# Altium integrated library TI Data Converters Digital to Analog Converter.IntLib: 1533 symbols (part 96 of 99)
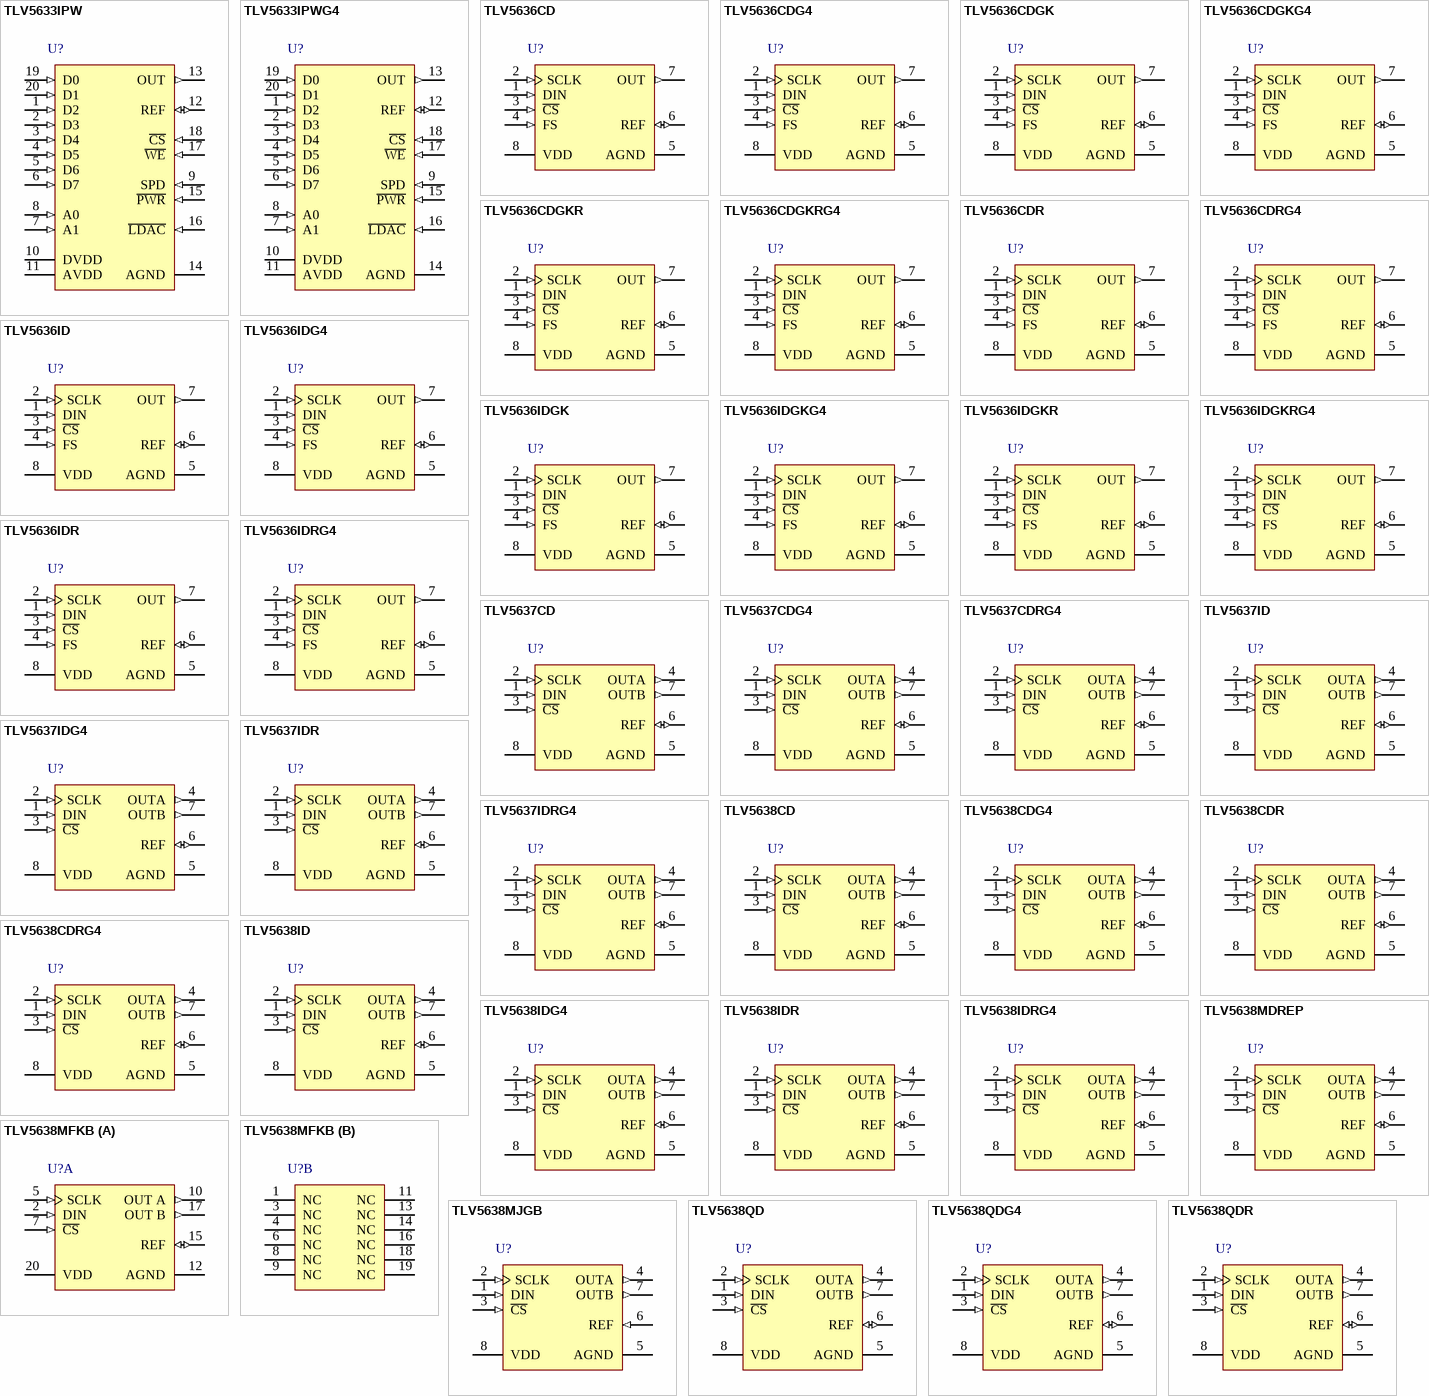
[diagram p168: symbols TLV5633IPW to TLV5638QDR]

## TLV5638CDRG4
designator U?
12-Bit, 1 or 3.5 us DAC Serial Input, Dual DAC, Programmable Internal Reference, Settling Time, Power Consumption, 0 to 70 degC, 8-pin SOIC (D8), Green (RoHS & no Sb/Br); Manufacturer: Texas Instruments; PartNumber: TLV5638CDRG4; DAC Channels: 2; DNL(Max)(+/-LSB): 1; INL(Max)(+/-LSB): 4; Interface: Serial SPI; Power Consumption(Typ)(mW): 4.5; Resolution(Bits): 12; SFDR(dB): 72; SNR(dB): 74; SubFamily: Precision DAC (=<10MSPS); DatasheetVersion: SLAS225C; PackageVersion: 4040047-3/M, 06/2011; PackageReference: D8; PackageDescription: 8-Pin Plastic Small Outline, Body 4.9 x 3.9 mm, Pitch 1.27 mm; Supplier 1: Digi-Key; Supplier Part Number 1: TLV5638CDRG4-ND; Supplier 2: Mouser; Supplier Part Number 2: 595-TLV5638CDRG4; Eco-Plan: Green (RoHS & no Sb/Br); Settling Time(us): 1; Mounting Technology: Surface Mount; Code_JEDEC: MS-012; ComponentLink1Description: Manufacturer URL; ComponentLink1URL: http://www.ti.com/; ComponentLink2Description: Datasheet; ComponentLink2URL: http://www.ti.com/general/docs/lit/getliterature.tsp?genericPartNumber=TLV5638&fileType=pdf; ComponentLink3Description: Package Specification; ComponentLink3URL: http://www.ti.com/litv/pdf/msoi002j
footprint TI-D8_N (SOIC, 8-Leads, Body 4.9x3.9mm, Pitch 1.27mm, IPC Medium Density)
footprint TI-D8_L (SOIC, 8-Leads, Body 4.9x3.9mm, Pitch 1.27mm, IPC High Density)
footprint TI-D8_M (SOIC, 8-Leads, Body 4.9x3.9mm, Pitch 1.27mm, IPC Low Density)
pins: 1 DIN (in) "Digital serial data input", 2 SCLK (in) "Digital serial clock input", 3 ~{CS} (in) "Chip select. Digital input active low, used to enable/disable inputs", 4 OUTA (out) "DAC A analog voltage output", 5 AGND (power) "Ground", 6 REF (io) "Analog reference voltage input/output", 7 OUTB (out) "DAC B analog voltage output", 8 VDD (power) "Positive power supply"

## TLV5638ID
designator U?
12-Bit, 1 or 3.5 us DAC Serial Input, Dual DAC, Programmable Internal Reference, Settling Time, Power Consumption, -40 to 85 degC, 8-pin SOIC (D8), Green (RoHS & no Sb/Br); Manufacturer: Texas Instruments; PartNumber: TLV5638ID; DAC Channels: 2; DNL(Max)(+/-LSB): 1; INL(Max)(+/-LSB): 4; Interface: Serial SPI; Power Consumption(Typ)(mW): 4.5; Resolution(Bits): 12; SFDR(dB): 72; SNR(dB): 74; SubFamily: Precision DAC (=<10MSPS); DatasheetVersion: SLAS225C; PackageVersion: 4040047-3/M, 06/2011; PackageReference: D8; PackageDescription: 8-Pin Plastic Small Outline, Body 4.9 x 3.9 mm, Pitch 1.27 mm; Supplier 1: Digi-Key; Supplier Part Number 1: 296-3076-5-ND; Supplier 2: Farnell; Supplier Part Number 2: 8455856; Supplier 3: Newark; Supplier Part Number 3: 76C8995; Supplier 4: Mouser; Supplier Part Number 4: 595-TLV5638ID; Eco-Plan: Green (RoHS & no Sb/Br); Settling Time(us): 1; Mounting Technology: Surface Mount; Code_JEDEC: MS-012; ComponentLink1Description: Manufacturer URL; ComponentLink1URL: http://www.ti.com/; ComponentLink2Description: Datasheet; ComponentLink2URL: http://www.ti.com/general/docs/lit/getliterature.tsp?genericPartNumber=TLV5638&fileType=pdf; ComponentLink3Description: Package Specification; ComponentLink3URL: http://www.ti.com/litv/pdf/msoi002j
footprint TI-D8_N (SOIC, 8-Leads, Body 4.9x3.9mm, Pitch 1.27mm, IPC Medium Density)
footprint TI-D8_L (SOIC, 8-Leads, Body 4.9x3.9mm, Pitch 1.27mm, IPC High Density)
footprint TI-D8_M (SOIC, 8-Leads, Body 4.9x3.9mm, Pitch 1.27mm, IPC Low Density)
pins: 1 DIN (in) "Digital serial data input", 2 SCLK (in) "Digital serial clock input", 3 ~{CS} (in) "Chip select. Digital input active low, used to enable/disable inputs", 4 OUTA (out) "DAC A analog voltage output", 5 AGND (power) "Ground", 6 REF (io) "Analog reference voltage input/output", 7 OUTB (out) "DAC B analog voltage output", 8 VDD (power) "Positive power supply"

## TLV5638IDG4
designator U?
12-Bit, 1 or 3.5 us DAC Serial Input, Dual DAC, Programmable Internal Reference, Settling Time, Power Consumption, -40 to 85 degC, 8-pin SOIC (D8), Green (RoHS & no Sb/Br); Manufacturer: Texas Instruments; PartNumber: TLV5638IDG4; DAC Channels: 2; DNL(Max)(+/-LSB): 1; INL(Max)(+/-LSB): 4; Interface: Serial SPI; Power Consumption(Typ)(mW): 4.5; Resolution(Bits): 12; SFDR(dB): 72; SNR(dB): 74; SubFamily: Precision DAC (=<10MSPS); DatasheetVersion: SLAS225C; PackageVersion: 4040047-3/M, 06/2011; PackageReference: D8; PackageDescription: 8-Pin Plastic Small Outline, Body 4.9 x 3.9 mm, Pitch 1.27 mm; Supplier 1: Digi-Key; Supplier Part Number 1: TLV5638IDG4-ND; Supplier 2: Mouser; Supplier Part Number 2: 595-TLV5638IDG4; Eco-Plan: Green (RoHS & no Sb/Br); Settling Time(us): 1; Mounting Technology: Surface Mount; Code_JEDEC: MS-012; ComponentLink1Description: Manufacturer URL; ComponentLink1URL: http://www.ti.com/; ComponentLink2Description: Datasheet; ComponentLink2URL: http://www.ti.com/general/docs/lit/getliterature.tsp?genericPartNumber=TLV5638&fileType=pdf; ComponentLink3Description: Package Specification; ComponentLink3URL: http://www.ti.com/litv/pdf/msoi002j
footprint TI-D8_N (SOIC, 8-Leads, Body 4.9x3.9mm, Pitch 1.27mm, IPC Medium Density)
footprint TI-D8_L (SOIC, 8-Leads, Body 4.9x3.9mm, Pitch 1.27mm, IPC High Density)
footprint TI-D8_M (SOIC, 8-Leads, Body 4.9x3.9mm, Pitch 1.27mm, IPC Low Density)
pins: 1 DIN (in) "Digital serial data input", 2 SCLK (in) "Digital serial clock input", 3 ~{CS} (in) "Chip select. Digital input active low, used to enable/disable inputs", 4 OUTA (out) "DAC A analog voltage output", 5 AGND (power) "Ground", 6 REF (io) "Analog reference voltage input/output", 7 OUTB (out) "DAC B analog voltage output", 8 VDD (power) "Positive power supply"

## TLV5638IDR
designator U?
12-Bit, 1 or 3.5 us DAC Serial Input, Dual DAC, Programmable Internal Reference, Settling Time, Power Consumption, -40 to 85 degC, 8-pin SOIC (D8), Green (RoHS & no Sb/Br); Manufacturer: Texas Instruments; PartNumber: TLV5638IDR; DAC Channels: 2; DNL(Max)(+/-LSB): 1; INL(Max)(+/-LSB): 4; Interface: Serial SPI; Power Consumption(Typ)(mW): 4.5; Resolution(Bits): 12; SFDR(dB): 72; SNR(dB): 74; SubFamily: Precision DAC (=<10MSPS); DatasheetVersion: SLAS225C; PackageVersion: 4040047-3/M, 06/2011; PackageReference: D8; PackageDescription: 8-Pin Plastic Small Outline, Body 4.9 x 3.9 mm, Pitch 1.27 mm; Supplier 1: Digi-Key; Supplier Part Number 1: TLV5638IDR-ND; Supplier 2: Mouser; Supplier Part Number 2: 595-TLV5638IDR; Eco-Plan: Green (RoHS & no Sb/Br); Settling Time(us): 1; Mounting Technology: Surface Mount; Code_JEDEC: MS-012; ComponentLink1Description: Manufacturer URL; ComponentLink1URL: http://www.ti.com/; ComponentLink2Description: Datasheet; ComponentLink2URL: http://www.ti.com/general/docs/lit/getliterature.tsp?genericPartNumber=TLV5638&fileType=pdf; ComponentLink3Description: Package Specification; ComponentLink3URL: http://www.ti.com/litv/pdf/msoi002j
footprint TI-D8_N (SOIC, 8-Leads, Body 4.9x3.9mm, Pitch 1.27mm, IPC Medium Density)
footprint TI-D8_L (SOIC, 8-Leads, Body 4.9x3.9mm, Pitch 1.27mm, IPC High Density)
footprint TI-D8_M (SOIC, 8-Leads, Body 4.9x3.9mm, Pitch 1.27mm, IPC Low Density)
pins: 1 DIN (in) "Digital serial data input", 2 SCLK (in) "Digital serial clock input", 3 ~{CS} (in) "Chip select. Digital input active low, used to enable/disable inputs", 4 OUTA (out) "DAC A analog voltage output", 5 AGND (power) "Ground", 6 REF (io) "Analog reference voltage input/output", 7 OUTB (out) "DAC B analog voltage output", 8 VDD (power) "Positive power supply"

## TLV5638IDRG4
designator U?
12-Bit, 1 or 3.5 us DAC Serial Input, Dual DAC, Programmable Internal Reference, Settling Time, Power Consumption, -40 to 85 degC, 8-pin SOIC (D8), Green (RoHS & no Sb/Br); Manufacturer: Texas Instruments; PartNumber: TLV5638IDRG4; DAC Channels: 2; DNL(Max)(+/-LSB): 1; INL(Max)(+/-LSB): 4; Interface: Serial SPI; Power Consumption(Typ)(mW): 4.5; Resolution(Bits): 12; SFDR(dB): 72; SNR(dB): 74; SubFamily: Precision DAC (=<10MSPS); DatasheetVersion: SLAS225C; PackageVersion: 4040047-3/M, 06/2011; PackageReference: D8; PackageDescription: 8-Pin Plastic Small Outline, Body 4.9 x 3.9 mm, Pitch 1.27 mm; Supplier 1: Digi-Key; Supplier Part Number 1: TLV5638IDRG4-ND; Supplier 2: Mouser; Supplier Part Number 2: 595-TLV5638IDRG4; Eco-Plan: Green (RoHS & no Sb/Br); Settling Time(us): 1; Mounting Technology: Surface Mount; Code_JEDEC: MS-012; ComponentLink1Description: Manufacturer URL; ComponentLink1URL: http://www.ti.com/; ComponentLink2Description: Datasheet; ComponentLink2URL: http://www.ti.com/general/docs/lit/getliterature.tsp?genericPartNumber=TLV5638&fileType=pdf; ComponentLink3Description: Package Specification; ComponentLink3URL: http://www.ti.com/litv/pdf/msoi002j
footprint TI-D8_N (SOIC, 8-Leads, Body 4.9x3.9mm, Pitch 1.27mm, IPC Medium Density)
footprint TI-D8_L (SOIC, 8-Leads, Body 4.9x3.9mm, Pitch 1.27mm, IPC High Density)
footprint TI-D8_M (SOIC, 8-Leads, Body 4.9x3.9mm, Pitch 1.27mm, IPC Low Density)
pins: 1 DIN (in) "Digital serial data input", 2 SCLK (in) "Digital serial clock input", 3 ~{CS} (in) "Chip select. Digital input active low, used to enable/disable inputs", 4 OUTA (out) "DAC A analog voltage output", 5 AGND (power) "Ground", 6 REF (io) "Analog reference voltage input/output", 7 OUTB (out) "DAC B analog voltage output", 8 VDD (power) "Positive power supply"

## TLV5638MDREP
designator U?
Enhanced Product 12-Bit, 1 us Serial Input Dual DAC, Programmable Internal Reference, Settling Time, -55 to 125 degC, 8-pin SOIC (D8), Green (RoHS & no Sb/Br); Manufacturer: Texas Instruments; PartNumber: TLV5638MDREP; DAC Channels: 2; DNL(Max)(+/-LSB): 1; INL(Max)(+/-LSB): 6; Interface: Serial SPI; Power Consumption(Typ)(mW): 4.5; Resolution(Bits): 12; SFDR(dB): 72; SNR(dB): 74; SubFamily: Precision DAC (=<10MSPS); DatasheetVersion: SGLS130B; PackageVersion: 4040047-3/M, 06/2011; PackageReference: D8; PackageDescription: 8-Pin Plastic Small Outline, Body 4.9 x 3.9 mm, Pitch 1.27 mm; Supplier 1: Digi-Key; Supplier Part Number 1: 296-18149-2-ND; Supplier 2: Digi-Key; Supplier Part Number 2: 296-18149-1-ND; Supplier 3: Digi-Key; Supplier Part Number 3: 296-18149-6-ND; Supplier 4: Newark; Supplier Part Number 4: 46M0968; Supplier 5: Mouser; Supplier Part Number 5: 595-TLV5638MDREP; Eco-Plan: Green (RoHS & no Sb/Br); Settling Time(us): 1; Mounting Technology: Surface Mount; Code_JEDEC: MS-012; ComponentLink1Description: Manufacturer URL; ComponentLink1URL: http://www.ti.com/; ComponentLink2Description: Datasheet; ComponentLink2URL: http://www.ti.com/general/docs/lit/getliterature.tsp?genericPartNumber=TLV5638-EP&fileType=pdf; ComponentLink3Description: Package Specification; ComponentLink3URL: http://www.ti.com/litv/pdf/msoi002j
footprint TI-D8_N (SOIC, 8-Leads, Body 4.9x3.9mm, Pitch 1.27mm, IPC Medium Density)
footprint TI-D8_L (SOIC, 8-Leads, Body 4.9x3.9mm, Pitch 1.27mm, IPC High Density)
footprint TI-D8_M (SOIC, 8-Leads, Body 4.9x3.9mm, Pitch 1.27mm, IPC Low Density)
pins: 1 DIN (in) "Digital serial data input", 2 SCLK (in) "Digital serial clock input", 3 ~{CS} (in) "Chip select. Digital input active low, used to enable/disable inputs", 4 OUTA (out) "DAC A analog voltage output", 5 AGND (power) "Ground", 6 REF (io) "Analog reference voltage input/output", 7 OUTB (out) "DAC B analog voltage output", 8 VDD (power) "Positive power supply"

## TLV5638MFKB
designator U?
12-Bit, 1 or 3.5 us DAC Serial Input, Dual DAC, Programmable Internal Reference, Settling Time, Power Consumption, -55 to 125 degC, 20-pin LCC (FK20); Manufacturer: Texas Instruments; PartNumber: TLV5638MFKB; DAC Channels: 2; DNL(Max)(+/-LSB): 1; INL(Max)(+/-LSB): 6; Interface: Serial SPI; Power Consumption(Typ)(mW): 4.5; Resolution(Bits): 12; SFDR(dB): 72; SNR(dB): 74; SubFamily: Precision DAC (=<10MSPS); DatasheetVersion: SLAS225C; PackageVersion: 4040140/D, 01/2011; PackageReference: FK20; PackageDescription: 20-Pin Ceramic, Metal Chip Carrier, Body 8.89 x 8.89 mm, Pitch 1.27 mm; Settling Time(us): 1; Mounting Technology: Surface Mount; Code_JEDEC: MS-004; ComponentLink1Description: Manufacturer URL; ComponentLink1URL: http://www.ti.com/; ComponentLink2Description: Datasheet; ComponentLink2URL: http://www.ti.com/general/docs/lit/getliterature.tsp?genericPartNumber=TLV5638M&fileType=pdf; ComponentLink3Description: Package Specification; ComponentLink3URL: http://www.ti.com/litv/pdf/mlcc006d
footprint TI-FK20_N (Leadless Chip Carrier, 20-Leads, Body 8.9x8.9mm, Pitch 1.27mm, IPC Medium Density)
footprint TI-FK20_L (Leadless Chip Carrier, 20-Leads, Body 8.9x8.9mm, Pitch 1.27mm, IPC High Density)
footprint TI-FK20_M (Leadless Chip Carrier, 20-Leads, Body 8.9x8.9mm, Pitch 1.27mm, IPC Low Density)
part A pins: 2 DIN (in) "Digital serial data input", 5 SCLK (in) "Digital serial clock input", 7 ~{CS} (in) "Chip select. Digital input active low, used to enable/disable inputs", 10 OUT A (out) "DAC A analog voltage output", 12 AGND (power) "Ground", 15 REF (io) "Analog reference voltage input/output", 17 OUT B (out) "DAC B analog voltage output", 20 VDD (power) "Positive power supply"
part B pins: 1 NC, 3 NC, 4 NC, 6 NC, 8 NC, 9 NC, 11 NC, 13 NC, 14 NC, 16 NC, 18 NC, 19 NC

## TLV5638MJGB
designator U?
12-Bit, 1 or 3.5 us DAC Serial Input, Dual DAC, Programmable Internal Reference, Settling Time, Power Consumption, -55 to 125 degC, 8-pin DIP (JG8); Manufacturer: Texas Instruments; PartNumber: TLV5638MJGB; DAC Channels: 2; DNL(Max)(+/-LSB): 1; INL(Max)(+/-LSB): 6; Interface: Serial SPI; Power Consumption(Typ)(mW): 4.5; Resolution(Bits): 12; SFDR(dB): 72; SNR(dB): 74; SubFamily: Precision DAC (=<10MSPS); DatasheetVersion: SLAS225C; PackageVersion: 4040107/C, 08/1996; PackageReference: JG8; PackageDescription: 8-Pin Ceramic, Glass In-Line, Body 9.58 x 6.665 mm, Pitch 2.54 mm; Supplier 1: Mouser; Supplier Part Number 1: 595-TLV5638MJGB; Settling Time(us): 1; Mounting Technology: Through Hole; ComponentLink1Description: Manufacturer URL; ComponentLink1URL: http://www.ti.com/; ComponentLink2Description: Datasheet; ComponentLink2URL: http://www.ti.com/general/docs/lit/getliterature.tsp?genericPartNumber=TLV5638M&fileType=pdf; ComponentLink3Description: Package Specification; ComponentLink3URL: http://www.ti.com/litv/pdf/mcer001a
footprint TI-JG8 (DIP, 8-Leads, Body 10.15x7.1mm, Pitch 2.54mm)
pins: 1 DIN (in) "Digital serial data input", 2 SCLK (in) "Digital serial clock input", 3 ~{CS} (in) "Chip select. Digital input active low, used to enable/disable inputs.", 4 OUTA (out) "DAC A analog voltage output", 5 AGND (power) "Ground", 6 REF (in) "Analog reference voltage input", 7 OUTB (out) "DAC B analog voltage output", 8 VDD (power) "Positive power supply"

## TLV5638QD
designator U?
12-Bit, 1 or 3.5 us DAC Serial Input, Dual DAC, Programmable Internal Reference, Settling Time, Power Consumption, -40 to 125 degC, 8-pin SOIC (D8), Green (RoHS & no Sb/Br); Manufacturer: Texas Instruments; PartNumber: TLV5638QD; DAC Channels: 2; DNL(Max)(+/-LSB): 1; INL(Max)(+/-LSB): 6; Interface: Serial SPI; Power Consumption(Typ)(mW): 4.5; Resolution(Bits): 12; SFDR(dB): 72; SNR(dB): 74; SubFamily: Precision DAC (=<10MSPS); DatasheetVersion: SLAS225C; PackageVersion: 4040047-3/M, 06/2011; PackageReference: D8; PackageDescription: 8-Pin Plastic Small Outline, Body 4.9 x 3.9 mm, Pitch 1.27 mm; Supplier 1: Digi-Key; Supplier Part Number 1: 296-3077-5-ND; Supplier 2: Mouser; Supplier Part Number 2: 595-TLV5638QD; Eco-Plan: Green (RoHS & no Sb/Br); Settling Time(us): 1; Mounting Technology: Surface Mount; Code_JEDEC: MS-012; ComponentLink1Description: Manufacturer URL; ComponentLink1URL: http://www.ti.com/; ComponentLink2Description: Datasheet; ComponentLink2URL: http://www.ti.com/general/docs/lit/getliterature.tsp?genericPartNumber=TLV5638&fileType=pdf; ComponentLink3Description: Package Specification; ComponentLink3URL: http://www.ti.com/litv/pdf/msoi002j
footprint TI-D8_N (SOIC, 8-Leads, Body 4.9x3.9mm, Pitch 1.27mm, IPC Medium Density)
footprint TI-D8_L (SOIC, 8-Leads, Body 4.9x3.9mm, Pitch 1.27mm, IPC High Density)
footprint TI-D8_M (SOIC, 8-Leads, Body 4.9x3.9mm, Pitch 1.27mm, IPC Low Density)
pins: 1 DIN (in) "Digital serial data input", 2 SCLK (in) "Digital serial clock input", 3 ~{CS} (in) "Chip select. Digital input active low, used to enable/disable inputs", 4 OUTA (out) "DAC A analog voltage output", 5 AGND (power) "Ground", 6 REF (io) "Analog reference voltage input/output", 7 OUTB (out) "DAC B analog voltage output", 8 VDD (power) "Positive power supply"

## TLV5638QDG4
designator U?
12-Bit, 1 or 3.5 us DAC Serial Input, Dual DAC, Programmable Internal Reference, Settling Time, Power Consumption, -40 to 125 degC, 8-pin SOIC (D8), Green (RoHS & no Sb/Br); Manufacturer: Texas Instruments; PartNumber: TLV5638QDG4; DAC Channels: 2; DNL(Max)(+/-LSB): 1; INL(Max)(+/-LSB): 6; Interface: Serial SPI; Power Consumption(Typ)(mW): 4.5; Resolution(Bits): 12; SFDR(dB): 72; SNR(dB): 74; SubFamily: Precision DAC (=<10MSPS); DatasheetVersion: SLAS225C; PackageVersion: 4040047-3/M, 06/2011; PackageReference: D8; PackageDescription: 8-Pin Plastic Small Outline, Body 4.9 x 3.9 mm, Pitch 1.27 mm; Supplier 1: Digi-Key; Supplier Part Number 1: 296-34497-5-ND; Supplier 2: Mouser; Supplier Part Number 2: 595-TLV5638QDG4; Eco-Plan: Green (RoHS & no Sb/Br); Settling Time(us): 1; Mounting Technology: Surface Mount; Code_JEDEC: MS-012; ComponentLink1Description: Manufacturer URL; ComponentLink1URL: http://www.ti.com/; ComponentLink2Description: Datasheet; ComponentLink2URL: http://www.ti.com/general/docs/lit/getliterature.tsp?genericPartNumber=TLV5638&fileType=pdf; ComponentLink3Description: Package Specification; ComponentLink3URL: http://www.ti.com/litv/pdf/msoi002j
footprint TI-D8_N (SOIC, 8-Leads, Body 4.9x3.9mm, Pitch 1.27mm, IPC Medium Density)
footprint TI-D8_L (SOIC, 8-Leads, Body 4.9x3.9mm, Pitch 1.27mm, IPC High Density)
footprint TI-D8_M (SOIC, 8-Leads, Body 4.9x3.9mm, Pitch 1.27mm, IPC Low Density)
pins: 1 DIN (in) "Digital serial data input", 2 SCLK (in) "Digital serial clock input", 3 ~{CS} (in) "Chip select. Digital input active low, used to enable/disable inputs", 4 OUTA (out) "DAC A analog voltage output", 5 AGND (power) "Ground", 6 REF (io) "Analog reference voltage input/output", 7 OUTB (out) "DAC B analog voltage output", 8 VDD (power) "Positive power supply"

## TLV5638QDR
designator U?
12-Bit, 1 or 3.5 us DAC Serial Input, Dual DAC, Programmable Internal Reference, Settling Time, Power Consumption, -40 to 125 degC, 8-pin SOIC (D8), Green (RoHS & no Sb/Br); Manufacturer: Texas Instruments; PartNumber: TLV5638QDR; DAC Channels: 2; DNL(Max)(+/-LSB): 1; INL(Max)(+/-LSB): 6; Interface: Serial SPI; Power Consumption(Typ)(mW): 4.5; Resolution(Bits): 12; SFDR(dB): 72; SNR(dB): 74; SubFamily: Precision DAC (=<10MSPS); DatasheetVersion: SLAS225C; PackageVersion: 4040047-3/M, 06/2011; PackageReference: D8; PackageDescription: 8-Pin Plastic Small Outline, Body 4.9 x 3.9 mm, Pitch 1.27 mm; Supplier 1: Digi-Key; Supplier Part Number 1: TLV5638QDR-ND; Supplier 2: Mouser; Supplier Part Number 2: 595-TLV5638QDR; Eco-Plan: Green (RoHS & no Sb/Br); Settling Time(us): 1; Mounting Technology: Surface Mount; Code_JEDEC: MS-012; ComponentLink1Description: Manufacturer URL; ComponentLink1URL: http://www.ti.com/; ComponentLink2Description: Datasheet; ComponentLink2URL: http://www.ti.com/general/docs/lit/getliterature.tsp?genericPartNumber=TLV5638&fileType=pdf; ComponentLink3Description: Package Specification; ComponentLink3URL: http://www.ti.com/litv/pdf/msoi002j
footprint TI-D8_N (SOIC, 8-Leads, Body 4.9x3.9mm, Pitch 1.27mm, IPC Medium Density)
footprint TI-D8_L (SOIC, 8-Leads, Body 4.9x3.9mm, Pitch 1.27mm, IPC High Density)
footprint TI-D8_M (SOIC, 8-Leads, Body 4.9x3.9mm, Pitch 1.27mm, IPC Low Density)
pins: 1 DIN (in) "Digital serial data input", 2 SCLK (in) "Digital serial clock input", 3 ~{CS} (in) "Chip select. Digital input active low, used to enable/disable inputs", 4 OUTA (out) "DAC A analog voltage output", 5 AGND (power) "Ground", 6 REF (io) "Analog reference voltage input/output", 7 OUTB (out) "DAC B analog voltage output", 8 VDD (power) "Positive power supply"

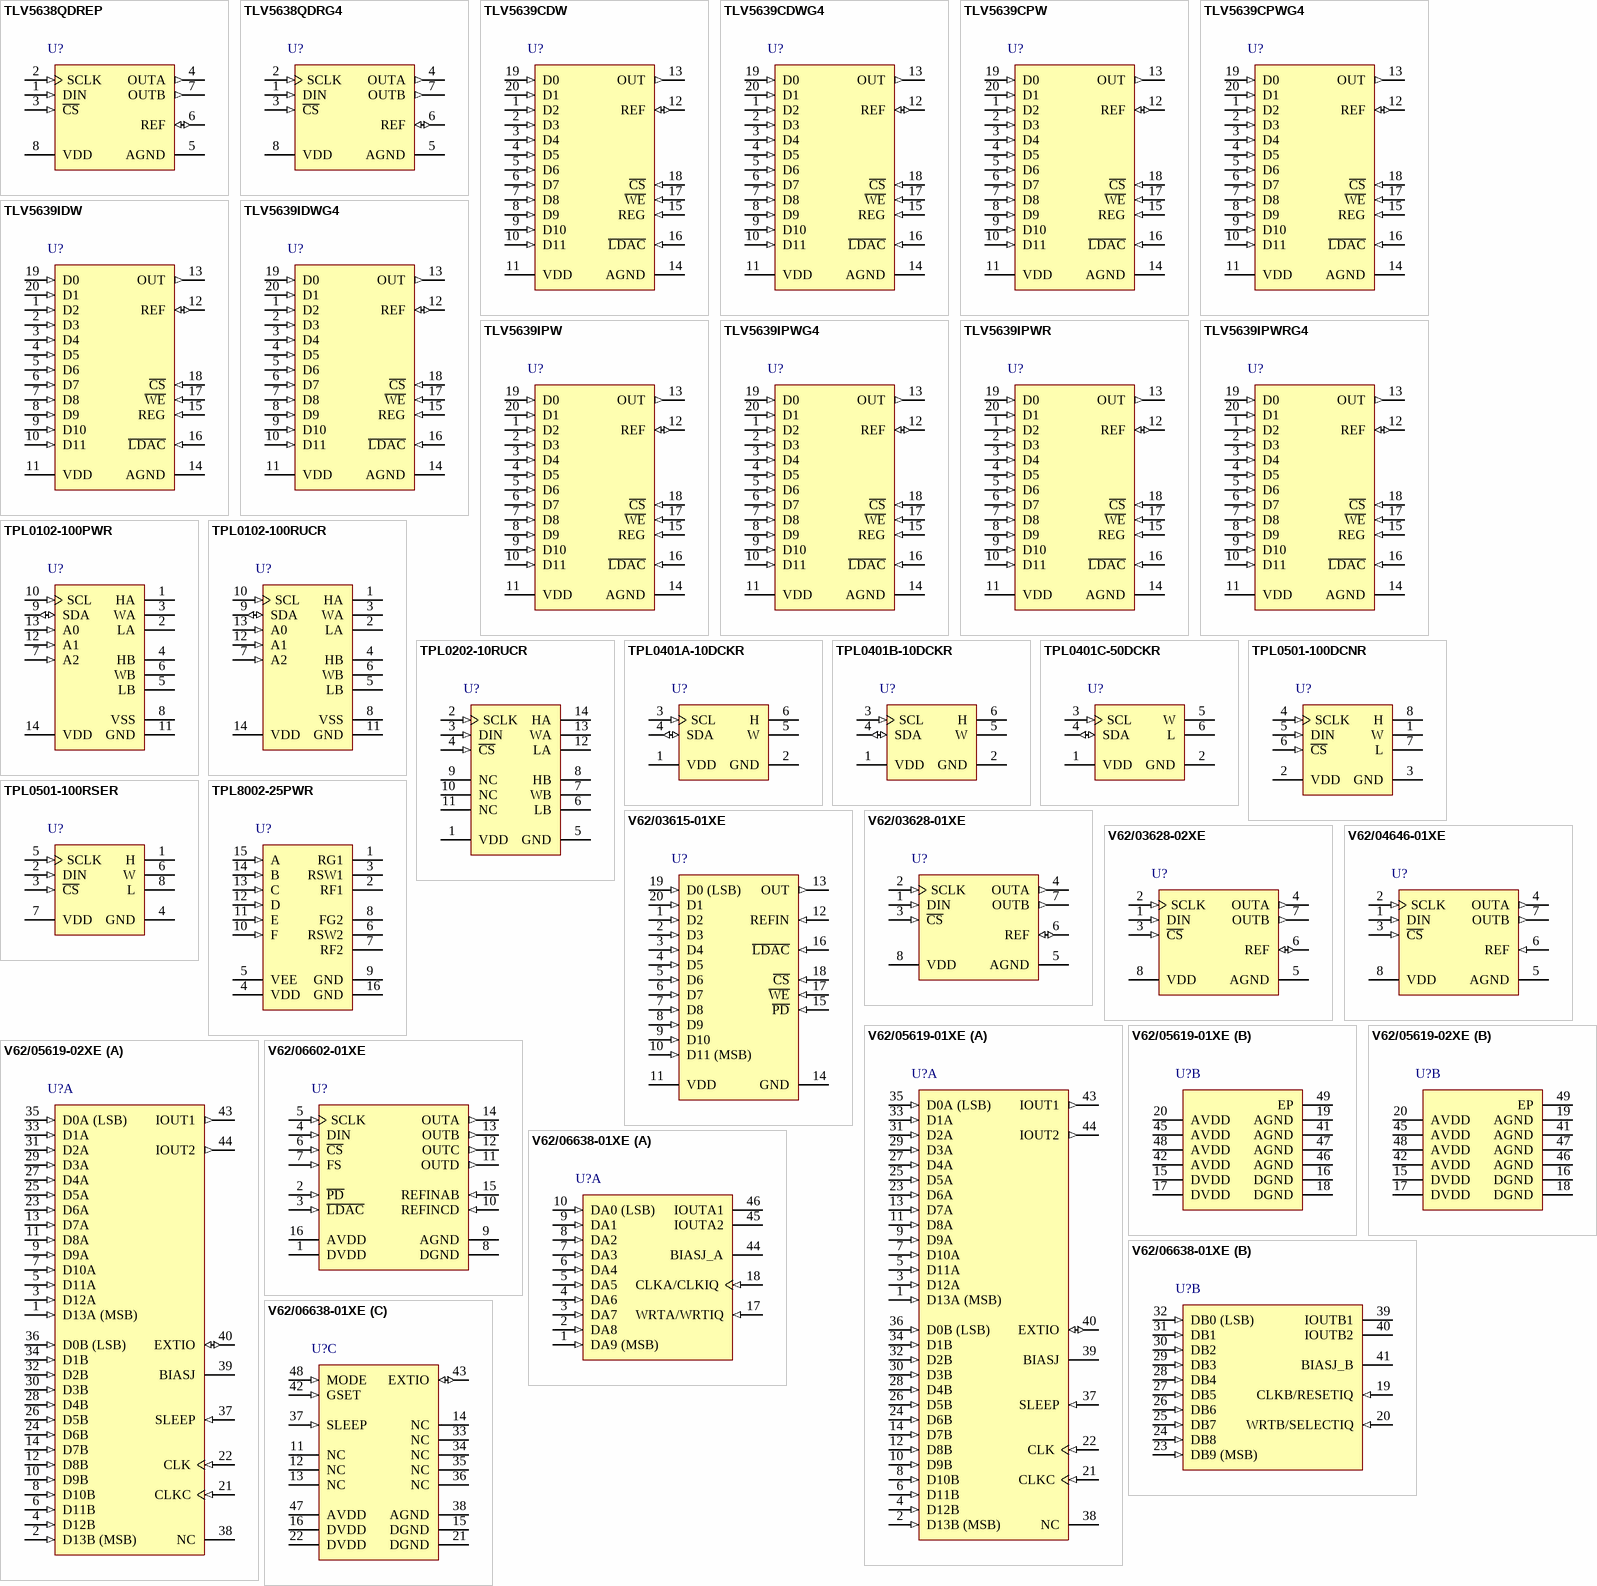
[diagram p71: symbols TLV5638QDREP to V62/06638-01XE]

## TLV5638QDREP
designator U?
Enhanced Product 12-Bit, 1 us Serial Input Dual DAC, Programmable Internal Reference, Settling Time, -40 to 125 degC, 8-pin SOIC (D8), Green (RoHS & no Sb/Br); Manufacturer: Texas Instruments; PartNumber: TLV5638QDREP; DAC Channels: 2; DNL(Max)(+/-LSB): 1; INL(Max)(+/-LSB): 6; Interface: Serial SPI; Power Consumption(Typ)(mW): 4.5; Resolution(Bits): 12; SFDR(dB): 72; SNR(dB): 74; SubFamily: Precision DAC (=<10MSPS); DatasheetVersion: SGLS130B; PackageVersion: 4040047-3/M, 06/2011; PackageReference: D8; PackageDescription: 8-Pin Plastic Small Outline, Body 4.9 x 3.9 mm, Pitch 1.27 mm; Supplier 1: Digi-Key; Supplier Part Number 1: 296-22433-2-ND; Supplier 2: Digi-Key; Supplier Part Number 2: 296-22433-1-ND; Supplier 3: Digi-Key; Supplier Part Number 3: 296-22433-6-ND; Supplier 4: Newark; Supplier Part Number 4: 46M0969; Supplier 5: Mouser; Supplier Part Number 5: 595-TLV5638QDREP; Eco-Plan: Green (RoHS & no Sb/Br); Settling Time(us): 1; Mounting Technology: Surface Mount; Code_JEDEC: MS-012; ComponentLink1Description: Manufacturer URL; ComponentLink1URL: http://www.ti.com/; ComponentLink2Description: Datasheet; ComponentLink2URL: http://www.ti.com/general/docs/lit/getliterature.tsp?genericPartNumber=TLV5638-EP&fileType=pdf; ComponentLink3Description: Package Specification; ComponentLink3URL: http://www.ti.com/litv/pdf/msoi002j
footprint TI-D8_N (SOIC, 8-Leads, Body 4.9x3.9mm, Pitch 1.27mm, IPC Medium Density)
footprint TI-D8_L (SOIC, 8-Leads, Body 4.9x3.9mm, Pitch 1.27mm, IPC High Density)
footprint TI-D8_M (SOIC, 8-Leads, Body 4.9x3.9mm, Pitch 1.27mm, IPC Low Density)
pins: 1 DIN (in) "Digital serial data input", 2 SCLK (in) "Digital serial clock input", 3 ~{CS} (in) "Chip select. Digital input active low, used to enable/disable inputs", 4 OUTA (out) "DAC A analog voltage output", 5 AGND (power) "Ground", 6 REF (io) "Analog reference voltage input/output", 7 OUTB (out) "DAC B analog voltage output", 8 VDD (power) "Positive power supply"

## TLV5638QDRG4
designator U?
12-Bit, 1 or 3.5 us DAC Serial Input, Dual DAC, Programmable Internal Reference, Settling Time, Power Consumption, -40 to 125 degC, 8-pin SOIC (D8), Green (RoHS & no Sb/Br); Manufacturer: Texas Instruments; PartNumber: TLV5638QDRG4; DAC Channels: 2; DNL(Max)(+/-LSB): 1; INL(Max)(+/-LSB): 6; Interface: Serial SPI; Power Consumption(Typ)(mW): 4.5; Resolution(Bits): 12; SFDR(dB): 72; SNR(dB): 74; SubFamily: Precision DAC (=<10MSPS); DatasheetVersion: SLAS225C; PackageVersion: 4040047-3/M, 06/2011; PackageReference: D8; PackageDescription: 8-Pin Plastic Small Outline, Body 4.9 x 3.9 mm, Pitch 1.27 mm; Supplier 1: Digi-Key; Supplier Part Number 1: 296-29421-2-ND; Supplier 2: Digi-Key; Supplier Part Number 2: 296-29421-1-ND; Supplier 3: Digi-Key; Supplier Part Number 3: 296-29421-6-ND; Supplier 4: Mouser; Supplier Part Number 4: 595-TLV5638QDRG4; Eco-Plan: Green (RoHS & no Sb/Br); Settling Time(us): 1; Mounting Technology: Surface Mount; Code_JEDEC: MS-012; ComponentLink1Description: Manufacturer URL; ComponentLink1URL: http://www.ti.com/; ComponentLink2Description: Datasheet; ComponentLink2URL: http://www.ti.com/general/docs/lit/getliterature.tsp?genericPartNumber=TLV5638&fileType=pdf; ComponentLink3Description: Package Specification; ComponentLink3URL: http://www.ti.com/litv/pdf/msoi002j
footprint TI-D8_N (SOIC, 8-Leads, Body 4.9x3.9mm, Pitch 1.27mm, IPC Medium Density)
footprint TI-D8_L (SOIC, 8-Leads, Body 4.9x3.9mm, Pitch 1.27mm, IPC High Density)
footprint TI-D8_M (SOIC, 8-Leads, Body 4.9x3.9mm, Pitch 1.27mm, IPC Low Density)
pins: 1 DIN (in) "Digital serial data input", 2 SCLK (in) "Digital serial clock input", 3 ~{CS} (in) "Chip select. Digital input active low, used to enable/disable inputs", 4 OUTA (out) "DAC A analog voltage output", 5 AGND (power) "Ground", 6 REF (io) "Analog reference voltage input/output", 7 OUTB (out) "DAC B analog voltage output", 8 VDD (power) "Positive power supply"

## TLV5639CDW
designator U?
12-Bit DAC, Parallel, Voltage Out, Programmable Internal Reference, Settling Time, Power Consumption, 1 Channel, 0 to 70 degC, 20-pin SOIC (DW20), Green (RoHS & no Sb/Br); Manufacturer: Texas Instruments; PartNumber: TLV5639CDW; DAC Channels: 1; DNL(Max)(+/-LSB): 0.5; INL(Max)(+/-LSB): 3; Power Consumption(Typ)(mW): 2.7; Resolution(Bits): 12; SFDR(dB): 74; SNR(dB): 78; SubFamily: Precision DAC (=<10MSPS); DatasheetVersion: SLAS189C; PackageVersion: 4040000-4/G, 01/2011; PackageReference: DW20; PackageDescription: 20-Pin Plastic Small Outline, Body 12.8 x 7.5 mm, Pitch 1.27 mm; Supplier 1: Digi-Key; Supplier Part Number 1: 296-2318-5-ND; Supplier 2: Mouser; Supplier Part Number 2: 595-TLV5639CDW; Eco-Plan: Green (RoHS & no Sb/Br); Interface: Parallel; Settling Time(us): 1; Mounting Technology: Surface Mount; Code_JEDEC: MO-013; ComponentLink1Description: Manufacturer URL; ComponentLink1URL: http://www.ti.com/; ComponentLink2Description: Datasheet; ComponentLink2URL: http://www.ti.com/general/docs/lit/getliterature.tsp?genericPartNumber=TLV5639&fileType=pdf; ComponentLink3Description: Package Specification; ComponentLink3URL: http://www.ti.com/lit/ml/mpds173a/mpds173a.pdf
footprint TI-DW20_N (SOIC, 20-Leads, Body 12.8x7.5mm, Pitch 1.27mm, IPC Medium Density)
footprint TI-DW20_L (SOIC, 20-Leads, Body 12.8x7.5mm, Pitch 1.27mm, IPC High Density)
footprint TI-DW20_M (SOIC, 20-Leads, Body 12.8x7.5mm, Pitch 1.27mm, IPC Low Density)
pins: 1 D2 (in) "Data input", 2 D3 (in) "Data input", 3 D4 (in) "Data input", 4 D5 (in) "Data input", 5 D6 (in) "Data input", 6 D7 (in) "Data input", 7 D8 (in) "Data input", 8 D9 (in) "Data input", 9 D10 (in) "Data input", 10 D11 (in) "Data input", 11 VDD (power) "Positive power supply", 12 REF (io) "Analog reference voltage input/output", 13 OUT (out) "DAC analog voltage output", 14 AGND (power) "Ground", 15 REG (in) "Register select. Digital input, used to access control register", 16 ~{LDAC} (in) "Load DAC. Digital input active low, used to load DAC output", 17 ~{WE} (in) "Write enable. Digital input active low, used to latch data", 18 ~{CS} (in) "Chip select. Digital input active low, used to enable/disable inputs", 19 D0 (in) "Data input", 20 D1 (in) "Data input"

## TLV5639CDWG4
designator U?
12-Bit DAC, Parallel, Voltage Out, Programmable Internal Reference, Settling Time, Power Consumption, 1 Channel, 0 to 70 degC, 20-pin SOIC (DW20), Green (RoHS & no Sb/Br); Manufacturer: Texas Instruments; PartNumber: TLV5639CDWG4; DAC Channels: 1; DNL(Max)(+/-LSB): 0.5; INL(Max)(+/-LSB): 3; Power Consumption(Typ)(mW): 2.7; Resolution(Bits): 12; SFDR(dB): 74; SNR(dB): 78; SubFamily: Precision DAC (=<10MSPS); DatasheetVersion: SLAS189C; PackageVersion: 4040000-4/G, 01/2011; PackageReference: DW20; PackageDescription: 20-Pin Plastic Small Outline, Body 12.8 x 7.5 mm, Pitch 1.27 mm; Supplier 1: Digi-Key; Supplier Part Number 1: TLV5639CDWG4-ND; Supplier 2: Newark; Supplier Part Number 2: 99K4377; Supplier 3: Mouser; Supplier Part Number 3: 595-TLV5639CDWG4; Eco-Plan: Green (RoHS & no Sb/Br); Interface: Parallel; Settling Time(us): 1; Mounting Technology: Surface Mount; Code_JEDEC: MO-013; ComponentLink1Description: Manufacturer URL; ComponentLink1URL: http://www.ti.com/; ComponentLink2Description: Datasheet; ComponentLink2URL: http://www.ti.com/general/docs/lit/getliterature.tsp?genericPartNumber=TLV5639&fileType=pdf; ComponentLink3Description: Package Specification; ComponentLink3URL: http://www.ti.com/lit/ml/mpds173a/mpds173a.pdf
footprint TI-DW20_N (SOIC, 20-Leads, Body 12.8x7.5mm, Pitch 1.27mm, IPC Medium Density)
footprint TI-DW20_L (SOIC, 20-Leads, Body 12.8x7.5mm, Pitch 1.27mm, IPC High Density)
footprint TI-DW20_M (SOIC, 20-Leads, Body 12.8x7.5mm, Pitch 1.27mm, IPC Low Density)
pins: 1 D2 (in) "Data input", 2 D3 (in) "Data input", 3 D4 (in) "Data input", 4 D5 (in) "Data input", 5 D6 (in) "Data input", 6 D7 (in) "Data input", 7 D8 (in) "Data input", 8 D9 (in) "Data input", 9 D10 (in) "Data input", 10 D11 (in) "Data input", 11 VDD (power) "Positive power supply", 12 REF (io) "Analog reference voltage input/output", 13 OUT (out) "DAC analog voltage output", 14 AGND (power) "Ground", 15 REG (in) "Register select. Digital input, used to access control register", 16 ~{LDAC} (in) "Load DAC. Digital input active low, used to load DAC output", 17 ~{WE} (in) "Write enable. Digital input active low, used to latch data", 18 ~{CS} (in) "Chip select. Digital input active low, used to enable/disable inputs", 19 D0 (in) "Data input", 20 D1 (in) "Data input"

## TLV5639CPW
designator U?
12-Bit DAC, Parallel, Voltage Out, Programmable Internal Reference, Settling Time, Power Consumption, 1 Channel, 0 to 70 degC, 20-pin SOP (PW20), Green (RoHS & no Sb/Br); Manufacturer: Texas Instruments; PartNumber: TLV5639CPW; DAC Channels: 1; DNL(Max)(+/-LSB): 0.5; INL(Max)(+/-LSB): 3; Power Consumption(Typ)(mW): 2.7; Resolution(Bits): 12; SFDR(dB): 74; SNR(dB): 78; SubFamily: Precision DAC (=<10MSPS); DatasheetVersion: SLAS189C; PackageVersion: 4040064-5/G, 02/2011; PackageReference: PW20; PackageDescription: 20-Pin Plastic Small Outline, Body 6.5 x 4.4 mm, Pitch 0.65 mm; Supplier 1: Digi-Key; Supplier Part Number 1: TLV5639CPW-ND; Supplier 2: Mouser; Supplier Part Number 2: 595-TLV5639CPW; Eco-Plan: Green (RoHS & no Sb/Br); Interface: Parallel; Settling Time(us): 1; Mounting Technology: Surface Mount; Code_JEDEC: MO-153; ComponentLink1Description: Manufacturer URL; ComponentLink1URL: http://www.ti.com/; ComponentLink2Description: Datasheet; ComponentLink2URL: http://www.ti.com/general/docs/lit/getliterature.tsp?genericPartNumber=TLV5639&fileType=pdf; ComponentLink3Description: Package Specification; ComponentLink3URL: http://www.ti.com.cn/cn/lit/ml/mpds362/mpds362.pdf
footprint TI-PW20_N (SOP, 20-Leads, Body 6.5x4.4mm, Pitch 0.65mm, IPC Medium Density)
footprint TI-PW20_L (SOP, 20-Leads, Body 6.5x4.4mm, Pitch 0.65mm, IPC High Density)
footprint TI-PW20_M (SOP, 20-Leads, Body 6.5x4.4mm, Pitch 0.65mm, IPC Low Density)
pins: 1 D2 (in) "Data input", 2 D3 (in) "Data input", 3 D4 (in) "Data input", 4 D5 (in) "Data input", 5 D6 (in) "Data input", 6 D7 (in) "Data input", 7 D8 (in) "Data input", 8 D9 (in) "Data input", 9 D10 (in) "Data input", 10 D11 (in) "Data input", 11 VDD (power) "Positive power supply", 12 REF (io) "Analog reference voltage input/output", 13 OUT (out) "DAC analog voltage output", 14 AGND (power) "Ground", 15 REG (in) "Register select. Digital input, used to access control register", 16 ~{LDAC} (in) "Load DAC. Digital input active low, used to load DAC output", 17 ~{WE} (in) "Write enable. Digital input active low, used to latch data", 18 ~{CS} (in) "Chip select. Digital input active low, used to enable/disable inputs", 19 D0 (in) "Data input", 20 D1 (in) "Data input"

## TLV5639CPWG4
designator U?
12-Bit DAC, Parallel, Voltage Out, Programmable Internal Reference, Settling Time, Power Consumption, 1 Channel, 0 to 70 degC, 20-pin SOP (PW20), Green (RoHS & no Sb/Br); Manufacturer: Texas Instruments; PartNumber: TLV5639CPWG4; DAC Channels: 1; DNL(Max)(+/-LSB): 0.5; INL(Max)(+/-LSB): 3; Power Consumption(Typ)(mW): 2.7; Resolution(Bits): 12; SFDR(dB): 74; SNR(dB): 78; SubFamily: Precision DAC (=<10MSPS); DatasheetVersion: SLAS189C; PackageVersion: 4040064-5/G, 02/2011; PackageReference: PW20; PackageDescription: 20-Pin Plastic Small Outline, Body 6.5 x 4.4 mm, Pitch 0.65 mm; Supplier 1: Digi-Key; Supplier Part Number 1: TLV5639CPWG4-ND; Supplier 2: Mouser; Supplier Part Number 2: 595-TLV5639CPWG4; Eco-Plan: Green (RoHS & no Sb/Br); Interface: Parallel; Settling Time(us): 1; Mounting Technology: Surface Mount; Code_JEDEC: MO-153; ComponentLink1Description: Manufacturer URL; ComponentLink1URL: http://www.ti.com/; ComponentLink2Description: Datasheet; ComponentLink2URL: http://www.ti.com/general/docs/lit/getliterature.tsp?genericPartNumber=TLV5639&fileType=pdf; ComponentLink3Description: Package Specification; ComponentLink3URL: http://www.ti.com.cn/cn/lit/ml/mpds362/mpds362.pdf
footprint TI-PW20_N (SOP, 20-Leads, Body 6.5x4.4mm, Pitch 0.65mm, IPC Medium Density)
footprint TI-PW20_L (SOP, 20-Leads, Body 6.5x4.4mm, Pitch 0.65mm, IPC High Density)
footprint TI-PW20_M (SOP, 20-Leads, Body 6.5x4.4mm, Pitch 0.65mm, IPC Low Density)
pins: 1 D2 (in) "Data input", 2 D3 (in) "Data input", 3 D4 (in) "Data input", 4 D5 (in) "Data input", 5 D6 (in) "Data input", 6 D7 (in) "Data input", 7 D8 (in) "Data input", 8 D9 (in) "Data input", 9 D10 (in) "Data input", 10 D11 (in) "Data input", 11 VDD (power) "Positive power supply", 12 REF (io) "Analog reference voltage input/output", 13 OUT (out) "DAC analog voltage output", 14 AGND (power) "Ground", 15 REG (in) "Register select. Digital input, used to access control register", 16 ~{LDAC} (in) "Load DAC. Digital input active low, used to load DAC output", 17 ~{WE} (in) "Write enable. Digital input active low, used to latch data", 18 ~{CS} (in) "Chip select. Digital input active low, used to enable/disable inputs", 19 D0 (in) "Data input", 20 D1 (in) "Data input"

## TLV5639IDW
designator U?
12-Bit DAC, Parallel, Voltage Out, Programmable Internal Reference, Settling Time, Power Consumption, 1 Channel, -40 to 85 degC, 20-pin SOIC (DW20), Green (RoHS & no Sb/Br); Manufacturer: Texas Instruments; PartNumber: TLV5639IDW; DAC Channels: 1; DNL(Max)(+/-LSB): 0.5; INL(Max)(+/-LSB): 3; Power Consumption(Typ)(mW): 2.7; Resolution(Bits): 12; SFDR(dB): 74; SNR(dB): 78; SubFamily: Precision DAC (=<10MSPS); DatasheetVersion: SLAS189C; PackageVersion: 4040000-4/G, 01/2011; PackageReference: DW20; PackageDescription: 20-Pin Plastic Small Outline, Body 12.8 x 7.5 mm, Pitch 1.27 mm; Supplier 1: Digi-Key; Supplier Part Number 1: 296-3078-5-ND; Supplier 2: Newark; Supplier Part Number 2: 76C9002; Supplier 3: Mouser; Supplier Part Number 3: 595-TLV5639IDW; Eco-Plan: Green (RoHS & no Sb/Br); Interface: Parallel; Settling Time(us): 1; Mounting Technology: Surface Mount; Code_JEDEC: MO-013; ComponentLink1Description: Manufacturer URL; ComponentLink1URL: http://www.ti.com/; ComponentLink2Description: Datasheet; ComponentLink2URL: http://www.ti.com/general/docs/lit/getliterature.tsp?genericPartNumber=TLV5639&fileType=pdf; ComponentLink3Description: Package Specification; ComponentLink3URL: http://www.ti.com/lit/ml/mpds173a/mpds173a.pdf
footprint TI-DW20_N (SOIC, 20-Leads, Body 12.8x7.5mm, Pitch 1.27mm, IPC Medium Density)
footprint TI-DW20_L (SOIC, 20-Leads, Body 12.8x7.5mm, Pitch 1.27mm, IPC High Density)
footprint TI-DW20_M (SOIC, 20-Leads, Body 12.8x7.5mm, Pitch 1.27mm, IPC Low Density)
pins: 1 D2 (in) "Data input", 2 D3 (in) "Data input", 3 D4 (in) "Data input", 4 D5 (in) "Data input", 5 D6 (in) "Data input", 6 D7 (in) "Data input", 7 D8 (in) "Data input", 8 D9 (in) "Data input", 9 D10 (in) "Data input", 10 D11 (in) "Data input", 11 VDD (power) "Positive power supply", 12 REF (io) "Analog reference voltage input/output", 13 OUT (out) "DAC analog voltage output", 14 AGND (power) "Ground", 15 REG (in) "Register select. Digital input, used to access control register", 16 ~{LDAC} (in) "Load DAC. Digital input active low, used to load DAC output", 17 ~{WE} (in) "Write enable. Digital input active low, used to latch data", 18 ~{CS} (in) "Chip select. Digital input active low, used to enable/disable inputs", 19 D0 (in) "Data input", 20 D1 (in) "Data input"

## TLV5639IDWG4
designator U?
12-Bit DAC, Parallel, Voltage Out, Programmable Internal Reference, Settling Time, Power Consumption, 1 Channel, -40 to 85 degC, 20-pin SOIC (DW20), Green (RoHS & no Sb/Br); Manufacturer: Texas Instruments; PartNumber: TLV5639IDWG4; DAC Channels: 1; DNL(Max)(+/-LSB): 0.5; INL(Max)(+/-LSB): 3; Power Consumption(Typ)(mW): 2.7; Resolution(Bits): 12; SFDR(dB): 74; SNR(dB): 78; SubFamily: Precision DAC (=<10MSPS); DatasheetVersion: SLAS189C; PackageVersion: 4040000-4/G, 01/2011; PackageReference: DW20; PackageDescription: 20-Pin Plastic Small Outline, Body 12.8 x 7.5 mm, Pitch 1.27 mm; Supplier 1: Digi-Key; Supplier Part Number 1: TLV5639IDWG4-ND; Supplier 2: Mouser; Supplier Part Number 2: 595-TLV5639IDWG4; Eco-Plan: Green (RoHS & no Sb/Br); Interface: Parallel; Settling Time(us): 1; Mounting Technology: Surface Mount; Code_JEDEC: MO-013; ComponentLink1Description: Manufacturer URL; ComponentLink1URL: http://www.ti.com/; ComponentLink2Description: Datasheet; ComponentLink2URL: http://www.ti.com/general/docs/lit/getliterature.tsp?genericPartNumber=TLV5639&fileType=pdf; ComponentLink3Description: Package Specification; ComponentLink3URL: http://www.ti.com/lit/ml/mpds173a/mpds173a.pdf
footprint TI-DW20_N (SOIC, 20-Leads, Body 12.8x7.5mm, Pitch 1.27mm, IPC Medium Density)
footprint TI-DW20_L (SOIC, 20-Leads, Body 12.8x7.5mm, Pitch 1.27mm, IPC High Density)
footprint TI-DW20_M (SOIC, 20-Leads, Body 12.8x7.5mm, Pitch 1.27mm, IPC Low Density)
pins: 1 D2 (in) "Data input", 2 D3 (in) "Data input", 3 D4 (in) "Data input", 4 D5 (in) "Data input", 5 D6 (in) "Data input", 6 D7 (in) "Data input", 7 D8 (in) "Data input", 8 D9 (in) "Data input", 9 D10 (in) "Data input", 10 D11 (in) "Data input", 11 VDD (power) "Positive power supply", 12 REF (io) "Analog reference voltage input/output", 13 OUT (out) "DAC analog voltage output", 14 AGND (power) "Ground", 15 REG (in) "Register select. Digital input, used to access control register", 16 ~{LDAC} (in) "Load DAC. Digital input active low, used to load DAC output", 17 ~{WE} (in) "Write enable. Digital input active low, used to latch data", 18 ~{CS} (in) "Chip select. Digital input active low, used to enable/disable inputs", 19 D0 (in) "Data input", 20 D1 (in) "Data input"

## TLV5639IPW
designator U?
12-Bit DAC, Parallel, Voltage Out, Programmable Internal Reference, Settling Time, Power Consumption, 1 Channel, -40 to 85 degC, 20-pin SOP (PW20), Green (RoHS & no Sb/Br); Manufacturer: Texas Instruments; PartNumber: TLV5639IPW; DAC Channels: 1; DNL(Max)(+/-LSB): 0.5; INL(Max)(+/-LSB): 3; Power Consumption(Typ)(mW): 2.7; Resolution(Bits): 12; SFDR(dB): 74; SNR(dB): 78; SubFamily: Precision DAC (=<10MSPS); DatasheetVersion: SLAS189C; PackageVersion: 4040064-5/G, 02/2011; PackageReference: PW20; PackageDescription: 20-Pin Plastic Small Outline, Body 6.5 x 4.4 mm, Pitch 0.65 mm; Supplier 1: Digi-Key; Supplier Part Number 1: 296-3079-5-ND; Supplier 2: Mouser; Supplier Part Number 2: 595-TLV5639IPW; Eco-Plan: Green (RoHS & no Sb/Br); Interface: Parallel; Settling Time(us): 1; Mounting Technology: Surface Mount; Code_JEDEC: MO-153; ComponentLink1Description: Manufacturer URL; ComponentLink1URL: http://www.ti.com/; ComponentLink2Description: Datasheet; ComponentLink2URL: http://www.ti.com/general/docs/lit/getliterature.tsp?genericPartNumber=TLV5639&fileType=pdf; ComponentLink3Description: Package Specification; ComponentLink3URL: http://www.ti.com.cn/cn/lit/ml/mpds362/mpds362.pdf
footprint TI-PW20_N (SOP, 20-Leads, Body 6.5x4.4mm, Pitch 0.65mm, IPC Medium Density)
footprint TI-PW20_L (SOP, 20-Leads, Body 6.5x4.4mm, Pitch 0.65mm, IPC High Density)
footprint TI-PW20_M (SOP, 20-Leads, Body 6.5x4.4mm, Pitch 0.65mm, IPC Low Density)
pins: 1 D2 (in) "Data input", 2 D3 (in) "Data input", 3 D4 (in) "Data input", 4 D5 (in) "Data input", 5 D6 (in) "Data input", 6 D7 (in) "Data input", 7 D8 (in) "Data input", 8 D9 (in) "Data input", 9 D10 (in) "Data input", 10 D11 (in) "Data input", 11 VDD (power) "Positive power supply", 12 REF (io) "Analog reference voltage input/output", 13 OUT (out) "DAC analog voltage output", 14 AGND (power) "Ground", 15 REG (in) "Register select. Digital input, used to access control register", 16 ~{LDAC} (in) "Load DAC. Digital input active low, used to load DAC output", 17 ~{WE} (in) "Write enable. Digital input active low, used to latch data", 18 ~{CS} (in) "Chip select. Digital input active low, used to enable/disable inputs", 19 D0 (in) "Data input", 20 D1 (in) "Data input"

## TLV5639IPWG4
designator U?
12-Bit DAC, Parallel, Voltage Out, Programmable Internal Reference, Settling Time, Power Consumption, 1 Channel, -40 to 85 degC, 20-pin SOP (PW20), Green (RoHS & no Sb/Br); Manufacturer: Texas Instruments; PartNumber: TLV5639IPWG4; DAC Channels: 1; DNL(Max)(+/-LSB): 0.5; INL(Max)(+/-LSB): 3; Power Consumption(Typ)(mW): 2.7; Resolution(Bits): 12; SFDR(dB): 74; SNR(dB): 78; SubFamily: Precision DAC (=<10MSPS); DatasheetVersion: SLAS189C; PackageVersion: 4040064-5/G, 02/2011; PackageReference: PW20; PackageDescription: 20-Pin Plastic Small Outline, Body 6.5 x 4.4 mm, Pitch 0.65 mm; Supplier 1: Digi-Key; Supplier Part Number 1: TLV5639IPWG4-ND; Supplier 2: Mouser; Supplier Part Number 2: 595-TLV5639IPWG4; Eco-Plan: Green (RoHS & no Sb/Br); Interface: Parallel; Settling Time(us): 1; Mounting Technology: Surface Mount; Code_JEDEC: MO-153; ComponentLink1Description: Manufacturer URL; ComponentLink1URL: http://www.ti.com/; ComponentLink2Description: Datasheet; ComponentLink2URL: http://www.ti.com/general/docs/lit/getliterature.tsp?genericPartNumber=TLV5639&fileType=pdf; ComponentLink3Description: Package Specification; ComponentLink3URL: http://www.ti.com.cn/cn/lit/ml/mpds362/mpds362.pdf
footprint TI-PW20_N (SOP, 20-Leads, Body 6.5x4.4mm, Pitch 0.65mm, IPC Medium Density)
footprint TI-PW20_L (SOP, 20-Leads, Body 6.5x4.4mm, Pitch 0.65mm, IPC High Density)
footprint TI-PW20_M (SOP, 20-Leads, Body 6.5x4.4mm, Pitch 0.65mm, IPC Low Density)
pins: 1 D2 (in) "Data input", 2 D3 (in) "Data input", 3 D4 (in) "Data input", 4 D5 (in) "Data input", 5 D6 (in) "Data input", 6 D7 (in) "Data input", 7 D8 (in) "Data input", 8 D9 (in) "Data input", 9 D10 (in) "Data input", 10 D11 (in) "Data input", 11 VDD (power) "Positive power supply", 12 REF (io) "Analog reference voltage input/output", 13 OUT (out) "DAC analog voltage output", 14 AGND (power) "Ground", 15 REG (in) "Register select. Digital input, used to access control register", 16 ~{LDAC} (in) "Load DAC. Digital input active low, used to load DAC output", 17 ~{WE} (in) "Write enable. Digital input active low, used to latch data", 18 ~{CS} (in) "Chip select. Digital input active low, used to enable/disable inputs", 19 D0 (in) "Data input", 20 D1 (in) "Data input"

## TLV5639IPWR
designator U?
12-Bit DAC, Parallel, Voltage Out, Programmable Internal Reference, Settling Time, Power Consumption, 1 Channel, -40 to 85 degC, 20-pin SOP (PW20), Green (RoHS & no Sb/Br); Manufacturer: Texas Instruments; PartNumber: TLV5639IPWR; DAC Channels: 1; DNL(Max)(+/-LSB): 0.5; INL(Max)(+/-LSB): 3; Power Consumption(Typ)(mW): 2.7; Resolution(Bits): 12; SFDR(dB): 74; SNR(dB): 78; SubFamily: Precision DAC (=<10MSPS); DatasheetVersion: SLAS189C; PackageVersion: 4040064-5/G, 02/2011; PackageReference: PW20; PackageDescription: 20-Pin Plastic Small Outline, Body 6.5 x 4.4 mm, Pitch 0.65 mm; Supplier 1: Digi-Key; Supplier Part Number 1: TLV5639IPWR-ND; Supplier 2: Mouser; Supplier Part Number 2: 595-TLV5639IPWR; Eco-Plan: Green (RoHS & no Sb/Br); Interface: Parallel; Settling Time(us): 1; Mounting Technology: Surface Mount; Code_JEDEC: MO-153; ComponentLink1Description: Manufacturer URL; ComponentLink1URL: http://www.ti.com/; ComponentLink2Description: Datasheet; ComponentLink2URL: http://www.ti.com/general/docs/lit/getliterature.tsp?genericPartNumber=TLV5639&fileType=pdf; ComponentLink3Description: Package Specification; ComponentLink3URL: http://www.ti.com.cn/cn/lit/ml/mpds362/mpds362.pdf
footprint TI-PW20_N (SOP, 20-Leads, Body 6.5x4.4mm, Pitch 0.65mm, IPC Medium Density)
footprint TI-PW20_L (SOP, 20-Leads, Body 6.5x4.4mm, Pitch 0.65mm, IPC High Density)
footprint TI-PW20_M (SOP, 20-Leads, Body 6.5x4.4mm, Pitch 0.65mm, IPC Low Density)
pins: 1 D2 (in) "Data input", 2 D3 (in) "Data input", 3 D4 (in) "Data input", 4 D5 (in) "Data input", 5 D6 (in) "Data input", 6 D7 (in) "Data input", 7 D8 (in) "Data input", 8 D9 (in) "Data input", 9 D10 (in) "Data input", 10 D11 (in) "Data input", 11 VDD (power) "Positive power supply", 12 REF (io) "Analog reference voltage input/output", 13 OUT (out) "DAC analog voltage output", 14 AGND (power) "Ground", 15 REG (in) "Register select. Digital input, used to access control register", 16 ~{LDAC} (in) "Load DAC. Digital input active low, used to load DAC output", 17 ~{WE} (in) "Write enable. Digital input active low, used to latch data", 18 ~{CS} (in) "Chip select. Digital input active low, used to enable/disable inputs", 19 D0 (in) "Data input", 20 D1 (in) "Data input"

## TLV5639IPWRG4
designator U?
12-Bit DAC, Parallel, Voltage Out, Programmable Internal Reference, Settling Time, Power Consumption, 1 Channel, -40 to 85 degC, 20-pin SOP (PW20), Green (RoHS & no Sb/Br); Manufacturer: Texas Instruments; PartNumber: TLV5639IPWRG4; DAC Channels: 1; DNL(Max)(+/-LSB): 0.5; INL(Max)(+/-LSB): 3; Power Consumption(Typ)(mW): 2.7; Resolution(Bits): 12; SFDR(dB): 74; SNR(dB): 78; SubFamily: Precision DAC (=<10MSPS); DatasheetVersion: SLAS189C; PackageVersion: 4040064-5/G, 02/2011; PackageReference: PW20; PackageDescription: 20-Pin Plastic Small Outline, Body 6.5 x 4.4 mm, Pitch 0.65 mm; Supplier 1: Digi-Key; Supplier Part Number 1: TLV5639IPWRG4-ND; Supplier 2: Mouser; Supplier Part Number 2: 595-TLV5639IPWRG4; Eco-Plan: Green (RoHS & no Sb/Br); Interface: Parallel; Settling Time(us): 1; Mounting Technology: Surface Mount; Code_JEDEC: MO-153; ComponentLink1Description: Manufacturer URL; ComponentLink1URL: http://www.ti.com/; ComponentLink2Description: Datasheet; ComponentLink2URL: http://www.ti.com/general/docs/lit/getliterature.tsp?genericPartNumber=TLV5639&fileType=pdf; ComponentLink3Description: Package Specification; ComponentLink3URL: http://www.ti.com.cn/cn/lit/ml/mpds362/mpds362.pdf
footprint TI-PW20_N (SOP, 20-Leads, Body 6.5x4.4mm, Pitch 0.65mm, IPC Medium Density)
footprint TI-PW20_L (SOP, 20-Leads, Body 6.5x4.4mm, Pitch 0.65mm, IPC High Density)
footprint TI-PW20_M (SOP, 20-Leads, Body 6.5x4.4mm, Pitch 0.65mm, IPC Low Density)
pins: 1 D2 (in) "Data input", 2 D3 (in) "Data input", 3 D4 (in) "Data input", 4 D5 (in) "Data input", 5 D6 (in) "Data input", 6 D7 (in) "Data input", 7 D8 (in) "Data input", 8 D9 (in) "Data input", 9 D10 (in) "Data input", 10 D11 (in) "Data input", 11 VDD (power) "Positive power supply", 12 REF (io) "Analog reference voltage input/output", 13 OUT (out) "DAC analog voltage output", 14 AGND (power) "Ground", 15 REG (in) "Register select. Digital input, used to access control register", 16 ~{LDAC} (in) "Load DAC. Digital input active low, used to load DAC output", 17 ~{WE} (in) "Write enable. Digital input active low, used to latch data", 18 ~{CS} (in) "Chip select. Digital input active low, used to enable/disable inputs", 19 D0 (in) "Data input", 20 D1 (in) "Data input"

## TPL0102-100PWR
designator U?
256 Tap Dual Channel Digital Potentiometer with I2C Interface and Non-Volatile Memory, -40 to 85 degC, 14-pin SOP (PW14), Green (RoHS & no Sb/Br); Manufacturer: Texas Instruments; PartNumber: TPL0102-100PWR; DAC Channels: 2; DNL(Max)(+/-LSB): 0.25; INL(Max)(+/-LSB): 0.5; DatasheetVersion: SLIS134B; PackageVersion: 4040064-3/G, 02/2011; PackageReference: PW14; PackageDescription: 14-Pin Plastic Small Outline, Body 5 x 4.4 mm, Pitch 0.65 mm; Supplier 1: Digi-Key; Supplier Part Number 1: 296-30048-2-ND; Supplier 2: Digi-Key; Supplier Part Number 2: 296-30048-1-ND; Supplier 3: Digi-Key; Supplier Part Number 3: 296-30048-6-ND; Supplier 4: Newark; Supplier Part Number 4: 76T8101; Supplier 5: Mouser; Supplier Part Number 5: 595-TPL0102-100PWR; Eco-Plan: Green (RoHS & no Sb/Br); Interface: I2C; SubFamily: Digital Potentiometer; Mounting Technology: Surface Mount; Code_JEDEC: MO-153; ComponentLink1Description: Manufacturer URL; ComponentLink1URL: http://www.ti.com/; ComponentLink2Description: Datasheet; ComponentLink2URL: http://www.ti.com/general/docs/lit/getliterature.tsp?genericPartNumber=TPL0102-100&fileType=pdf; ComponentLink3Description: Package Specification; ComponentLink3URL: http://www.ti.com/litv/pdf/mpds360
footprint TI-PW14_N (SOP, 14-Leads, Body 5x4.4mm, Pitch 0.65mm, IPC Medium Density)
footprint TI-PW14_L (SOP, 14-Leads, Body 5x4.4mm, Pitch 0.65mm, IPC High Density)
footprint TI-PW14_M (SOP, 14-Leads, Body 5x4.4mm, Pitch 0.65mm, IPC Low Density)
pins: 1 HA "High terminal of Potentiometer A", 2 LA "Low terminal of Potentiometer A", 3 WA "Wiper terminal of Potentiometer A", 4 HB "High terminal of Potentiometer B", 5 LB "Low terminal of Potentiometer B", 6 WB "Wiper terminal of Potentiometer B", 7 A2 (in) "Address Bit 2", 8 VSS (power) "Negative or GND Power Supply Pin", 9 SDA (io) "I2C Data I/O", 10 SCL (in) "I2C Clock Input", 11 GND (power) "Ground", 12 A1 (in) "Address Bit 1", 13 A0 (in) "Address Bit 0", 14 VDD (power) "Positive Power Supply Pin"